# Altium schematic symbol library 53261-0771.SchLib: 1 symbol
Pins are listed as number, name and electrical type; pins without a type are passive.

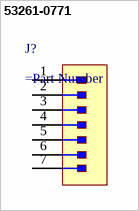
[diagram p0: symbol 53261-0771]

## 53261-0771
designator J?
=Description
pins: 1, 2, 3, 4, 5, 6, 7